# Altium schematic symbol library PCHLib.SchLib: 9 symbols
Pins are listed as number, name and electrical type; pins without a type are passive.

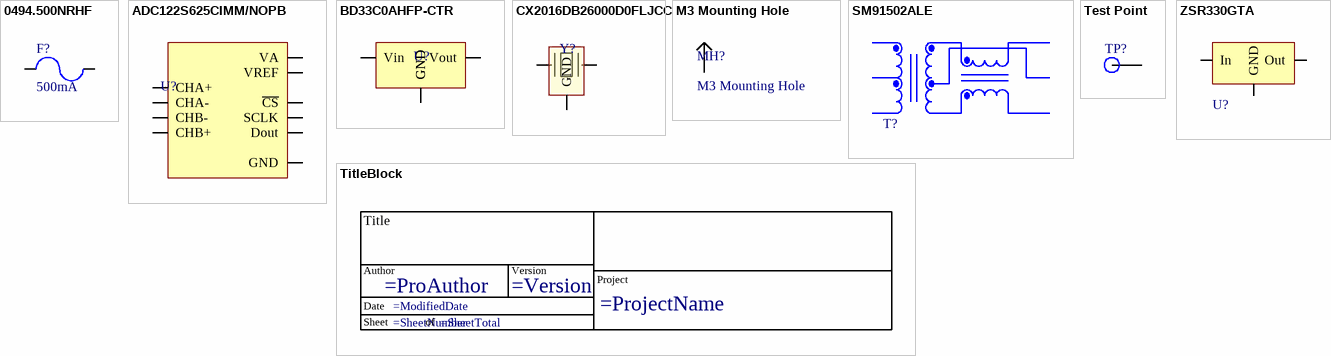
[diagram p0: symbols 0494.500NRHF to ZSR330GTA]

## 0494.500NRHF
designator F?  value 500mA  (hidden comment: 0494.500NRHF)
Surface Mount Fuses 32V .500A Case 0603 Protector Slim
footprint 0494.500NRHF (500mA Fast Blow Fuse)
pins: 1, 2

## ADC122S625CIMM/NOPB
designator U?  (value not drawn)
Analog to Digital Converters - ADC Dual 50kSPS-200kSPS 12B ADC
footprint TSSOP50P490X110-10N (TSSOP, 10-Leads, Body 3.00x3.00mm, Pitch 0.50mm, IPC Medium Density)
pins: 1 VREF, 2 CHA+, 3 CHA-, 4 CHB-, 5 CHB+, 6 GND, 7 VA, 8 Dout, 9 SCLK, 10 ~{CS}

## BD33C0AHFP-CTR
designator U?  (value not drawn)
LDO Voltage Regulators 35V RESIS 1A LDO REGULATOR
footprint HRP5 (LDO Regulator)
pins: 1 Vin, 3 GND, 5 Vout, 6 GND

## CX2016DB26000D0FLJCC
designator Y?  (value not drawn)
Crystals AEC-Q200 26000kHz 8pF 2x1.6mm
pins: 1, 2 GND, 3, 4 GND

## M3 Mounting Hole
designator MH?  (no BOM)
footprint M3 MH (M3 Mounting Hole)
pins: 1

## SM91502ALE
designator T?  (value not drawn)
BMS XFORMER 1-CH 1000V AECQ +125; Manufacturer: Bourns; Inductance: 150uH; Turns Ratio: 1:1; Supplier 1: RSComponents; Manufacturer Part Number: SM91502ALE; RoHS: Yes; Category: Transformers; Stock 1: 1; Pricing 1: 800=2.35100 (USD); Mount: Surface Mount; Min Operating Temperature: -40°C; Max Operating Temperature: 125°C; Packaging: Cut Tape; ComponentLink1URL: https://www.bourns.com/docs/Product-Datasheets/SM91502AL.pdf?src-supplier=Digi-Key; ComponentLink1Description: https://www.bourns.com/docs/Product-Datasheets/SM91502AL.pdf?src-supplier=Digi-Key; Supplier Part Number 1: 1802382
footprint SM91502ALE
pins: 1, 2, 3, 4, 5, 6

## Test Point
designator TP?, comment 1.2mm Test point  (value not drawn)  (no BOM)
footprint Test Point (1.2mm Test point)
pins: 1

## TitleBlock
designator *  (value not drawn)  (graphical)
text: Title; Author; Version; Project; Date; Sheet; of

## ZSR330GTA
designator U?  (value not drawn)
Standard Regulator Pos 3.3V 0.2A 4-Pin(3+Tab) SOT-223 T/R; Manufacturer: Diodes Zetex; Output Type: Fixed; Max Output Current: 200mA; Number of Outputs: 1; Max Input Voltage: 20V; Min Input Voltage: 5.3V; Max Power Dissipation: 2W; Polarity: Positive; Quiescent Current: 600uA; Accuracy: 2.5%; Power Supply Rejection Ratio (PSRR): 64dB; Supplier 1: RSComponents; Manufacturer Part Number: ZSR330GTA; RoHS: No; Category: Voltage Regulators - Linear; Stock 1: 90; Pricing 1: 5=1.13900, 25=0.99200, 50=0.94200, 250=0.74500, 500=0.66700, 5=0.82000, 25=0.71400, 50=0.67800, 250=0.53600, 500=0.48000 (USD); Mount: Surface Mount; Case/Package: SOT-223; Weight: 0.000282oz; Min Operating Temperature: -55°C; Max Operating Temperature: 125°C; Output Voltage: 3.3V; Output Voltage Accuracy: 2.5%; Tolerance: 2.5%; Power Rating: 2W; Packaging: Tape and Reel; Output Current: 200mA; Package Quantity: 1000; Number of Regulators: 1; Reference Voltage: 3.3V; Power Dissipation: 2W; Length: 6.7mm; Width: 3.7mm; Height: 1.65mm; Radiation Hardening: No; REACH SVHC: No SVHC; Lead Free: Lead Free; ComponentLink1URL: https://datasheet.ciiva.com/4882/zsr-91730-4882775.pdf?src-supplier=Mouser; ComponentLink1Description: https://datasheet.ciiva.com/4882/zsr-91730-4882775.pdf?src-supplier=Mouser; ComponentLink2URL: https://datasheet.ciiva.com/8240/zsr-8240251.pdf?src-supplier=Avnet; ComponentLink2Description: https://datasheet.ciiva.com/8240/zsr-8240251.pdf?src-supplier=Avnet
footprint ZSR330GTA (3.3V 200mA LVR)
pins: 1 Out, 2 GND, 3 In, 4 GND